# Altium footprint library FUSC4632X160N.PcbLib: 1 footprints
Each footprint in its own frame and in the unit in brackets; x right, y up, seen from the top. Pads: shape width x height; smd on the part's side, far side on the other; paste and mask are expansions set on the pad; w line width, h text height; cw(c..) or ccw(c..) is an arc to the next point about the centre after c.
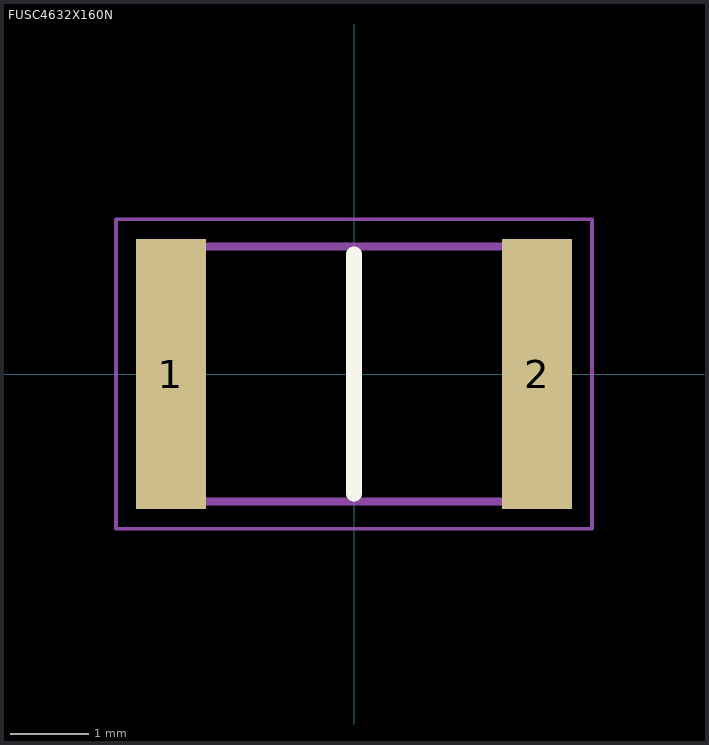
[diagram p0: the footprint, top view; thin cyan lines are the x and y axes]

## FUSC4632X160N [mm]
pads (2):
  rect 0.89x3.43 smd: 1(-2.325,0) 2(2.325,0)
Top Overlay:
  lines w0.2: 0,-1.52 0,1.52
Mechanical 15:
  lines w0.1: -2.3,-1.62 2.3,-1.62 2.3,1.62 -2.3,1.62 -2.3,-1.62
Mechanical 20:
  lines w0.05: -3.02,-1.965 3.02,-1.965 3.02,1.965 -3.02,1.965 -3.02,-1.965